# Altium footprint library Res_Bourns_3296W-1-202LF_eec_MFG.PcbLib: 1 footprints
Each footprint in its own frame and in the unit in brackets; x right, y up, seen from the top. Pads: shape width x height; smd on the part's side, far side on the other; paste and mask are expansions set on the pad; w line width, h text height; cw(c..) or ccw(c..) is an arc to the next point about the centre after c.
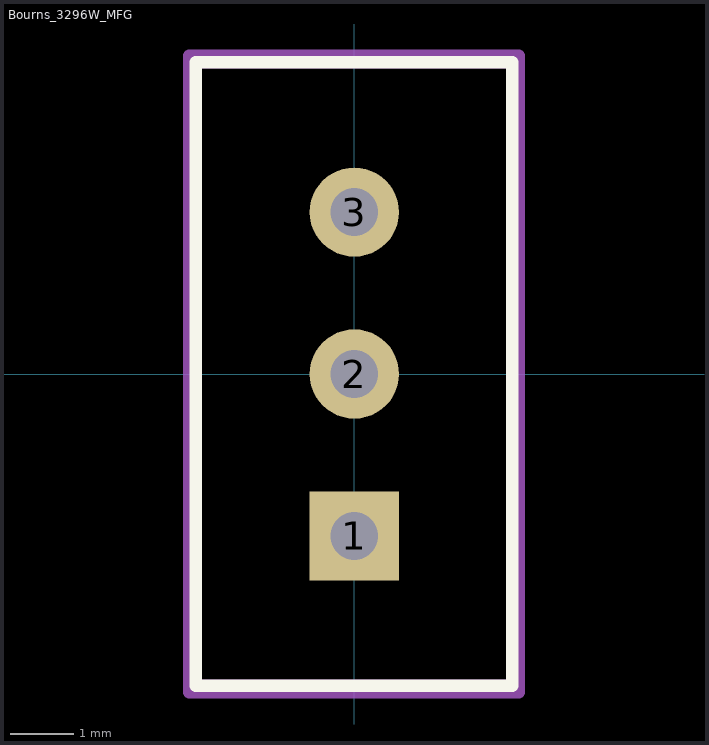
[diagram p0: the footprint, top view; thin cyan lines are the x and y axes]

## Bourns_3296W_MFG [mm]
pads (3):
  rect 1.4x1.4 hole 0.75 paste-1000 mask+0: 1(0.005,-2.54)
  round 1.4 hole 0.75 paste-1000 mask+0: 2(0.005,0) 3(0.005,2.54)
Top Overlay:
  lines w0.2: -2.48,-4.89 2.48,-4.89 2.48,4.89 -2.48,4.89 -2.48,-4.89
Mechanical 10:
  lines w0.2: -2.58,-4.99 2.58,-4.99 2.58,4.99 -2.58,4.99 -2.58,-4.99
  text ".Designator" at 0,-0.001 h1
Mechanical 12:
  lines w0.2: -2.48,-4.89 2.48,-4.89 2.48,4.89 -2.48,4.89 -2.48,-4.89
Mechanical 15:
  lines w0.1: -0.5,0 0.5,0 ; 0,-0.5 0,0.5
  lines w0.2: -2.58,-4.99 2.58,-4.99 2.58,4.99 -2.58,4.99 -2.58,-4.99
3D body "Res_Bourns_3296W-1-202LF_eec.STEP": height 0.25, standoff 0, extent -2.58,-4.99 2.58,4.99